# Altium schematic symbol library Schlib1.SchLib: 1 symbol
Pins are listed as number, name and electrical type; pins without a type are passive.

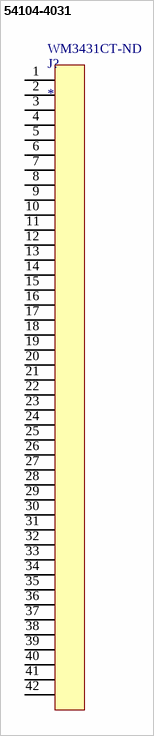
[diagram p0: symbol 54104-4031]

## 54104-4031
designator J?  Supplier Part Number 1: WM3431CT-ND
Conn FFC/FPC Connector SKT 40 POS 0.5mm Solder RA SMD Easy-On™ T/R; Manufacturer: Molex; Manufacturer Part Number: 54104-4031; Actuator Material: Glass,Polyphenylene; Actuator Color: Brown; Voltage Rating: 50V; Contact Resistance: 20mR; Current Rating: 500mA; Number of Positions: 40; Wire/Cable Type: Straight; Mating Cycles: 20; Contact Location: Top; Gender: Receptacle; Supplier 1: Digi-Key; RoHS: Yes; Category: FFC / FPC; Stock 1: 40667; Pricing 1: 1=3.27, 10=2.879, 100=2.2903 (USD); Mount: Surface Mount; Contact Material: Bronze; Contact Plating: Unplated,Gold; Housing Color: Natural; Housing Material: Nylon; Min Operating Temperature: -20°C; Max Operating Temperature: 85°C; Packaging: Tape and Reel; Number of Rows: 1; Package Quantity: 1500; Termination: Solder; Orientation: Right Angle; Series: 54104; Number of Contacts: 40; Length: 25.5mm; Pitch: 0.5mm; Depth: 5.6mm; Radiation Hardening: No; Flammability Rating: UL94 V-0; RoHS Compliant: Yes; Reach SVHC Compliant: Unknown; ComponentLink1URL: https://datasheet.ciiva.com/671/541045031-sd-671622.pdf?src-supplier=Digi-Key; ComponentLink1Description: https://datasheet.ciiva.com/671/541045031-sd-671622.pdf?src-supplier=Digi-Key; ComponentLink2URL: https://datasheet.ciiva.com/672/541044031-sd-672267.pdf?src-supplier=Digi-Key; ComponentLink2Description: https://datasheet.ciiva.com/672/541044031-sd-672267.pdf?src-supplier=Digi-Key; ComponentLink3URL: https://datasheet.ciiva.com/672/541044031-sd-672268.pdf?src-supplier=Digi-Key; ComponentLink3Description: https://datasheet.ciiva.com/672/541044031-sd-672268.pdf?src-supplier=Digi-Key
pins: 1, 2, 3, 4, 5, 6, 7, 8, 9, 10, 11, 12, 13, 14, 15, 16, 17, 18, 19, 20, 21, 22, 23, 24, 25, 26, 27, 28, 29, 30, 31, 32, 33, 34, 35, 36, 37, 38, 39, 40, 41, 42